# EAGLE library part ADF4382ABCCZ (library My_Library_RADAR)
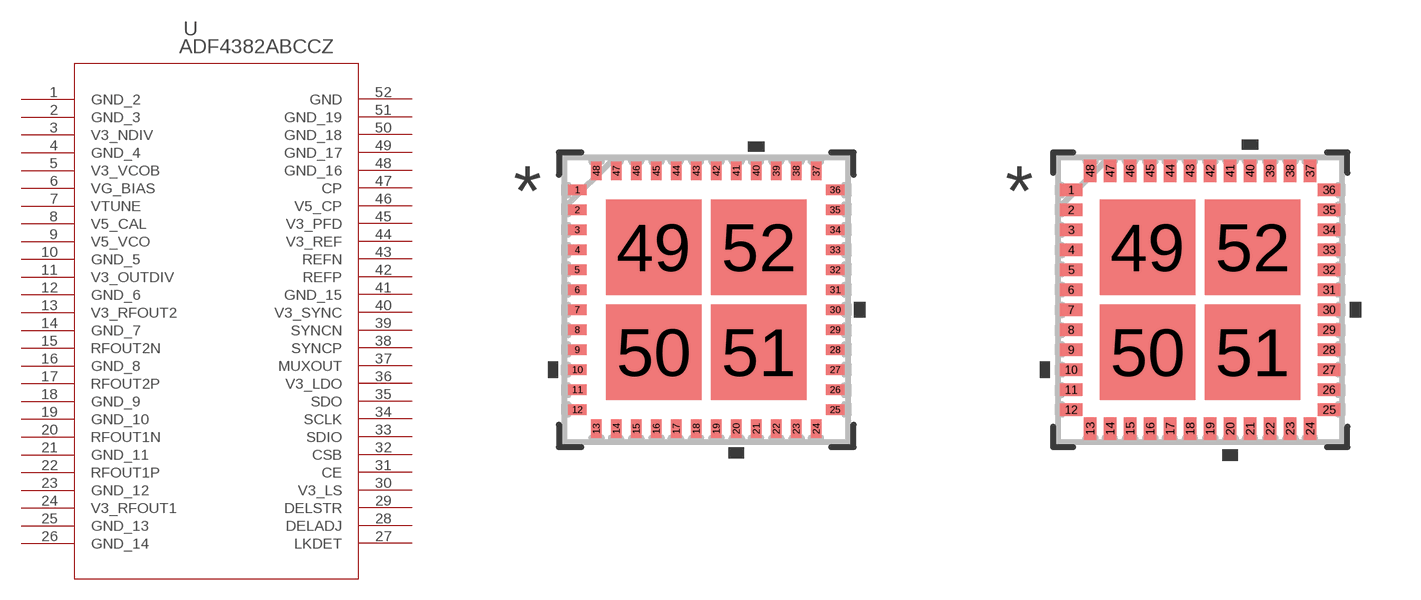
[diagram p3: symbol with the pads of CC-48-10_ADI; footprints CC-48-10_ADI, CC-48-10_ADI-M]

Designator prefix U

## ADF4382ABCCZ (COPYRIGHT: Copyright (C) 2024 Ultra Librarian. All rights reserved.; MANUFACTURER_PART_NUMBER: ADF4382ABCCZ; MFR_NAME: Analog Devices Inc)  [CC-48-10_ADI]
1  GND_2  pas
2  GND_3  pas
3  V3_NDIV  pwr
4  GND_4  pas
5  V3_VCOB  pwr
6  VG_BIAS  nc
7  VTUNE  in
8  V5_CAL  pwr
9  V5_VCO  pwr
10  GND_5  pas
11  V3_OUTDIV  pwr
12  GND_6  pas
13  V3_RFOUT2  pwr
14  GND_7  pas
15  RFOUT2N  out
16  GND_8  pas
17  RFOUT2P  out
18  GND_9  pas
19  GND_10  pas
20  RFOUT1N  out
21  GND_11  pas
22  RFOUT1P  out
23  GND_12  pas
24  V3_RFOUT1  pwr
25  GND_13  pas
26  GND_14  pas
27  LKDET  out
28  DELADJ  in
29  DELSTR  in
30  V3_LS  pwr
31  CE  in
32  CSB  in
33  SDIO
34  SCLK  in
35  SDO  out
36  V3_LDO  pwr
37  MUXOUT  out
38  SYNCP  in
39  SYNCN  in
40  V3_SYNC  pwr
41  GND_15  pas
42  REFP  in
43  REFN  in
44  V3_REF  pwr
45  V3_PFD  pwr
46  V5_CP  pwr
47  CP  out
48  GND_16  pas
49  GND_17  pas
50  GND_18  pas
51  GND_19  pas
52  GND  pas

## ADF4382ABCCZCC-48-10_ADI-M (COPYRIGHT: Copyright (C) 2024 Ultra Librarian. All rights reserved.; MANUFACTURER_PART_NUMBER: ADF4382ABCCZ; MFR_NAME: Analog Devices Inc)  [CC-48-10_ADI-M]
Pads as for CC-48-10_ADI

## ADF4382ABCCZCC-48-10_ADI-L (COPYRIGHT: Copyright (C) 2024 Ultra Librarian. All rights reserved.; MANUFACTURER_PART_NUMBER: ADF4382ABCCZ; MFR_NAME: Analog Devices Inc)  [CC-48-10_ADI-L]
Pads as for CC-48-10_ADI

## Footprint CC-48-10_ADI (pad centres in mm)
smd 0.457 x 0.254: 1 -3.226,2.75; 2 -3.226,2.25; 3 -3.226,1.75; 4 -3.226,1.25; 5 -3.226,0.75; 6 -3.226,0.25; 7 -3.226,-0.25; 8 -3.226,-0.75; 9 -3.226,-1.25; 10 -3.226,-1.75; 11 -3.226,-2.25; 12 -3.226,-2.75; 25 3.226,-2.75; 26 3.226,-2.25; 27 3.226,-1.75; 28 3.226,-1.25; 29 3.226,-0.75; 30 3.226,-0.25; 31 3.226,0.25; 32 3.226,0.75; 33 3.226,1.25; 34 3.226,1.75; 35 3.226,2.25; 36 3.226,2.75
smd 0.254 x 0.457: 13 -2.75,-3.226; 14 -2.25,-3.226; 15 -1.75,-3.226; 16 -1.25,-3.226; 17 -0.75,-3.226; 18 -0.25,-3.226; 19 0.25,-3.226; 20 0.75,-3.226; 21 1.25,-3.226; 22 1.75,-3.226; 23 2.25,-3.226; 24 2.75,-3.226; 37 2.75,3.226; 38 2.25,3.226; 39 1.75,3.226; 40 1.25,3.226; 41 0.75,3.226; 42 0.25,3.226; 43 -0.25,3.226; 44 -0.75,3.226; 45 -1.25,3.226; 46 -1.75,3.226; 47 -2.25,3.226; 48 -2.75,3.226
smd 2.388 x 2.388: 49 -1.312,1.312; 50 -1.312,-1.312; 51 1.312,-1.312; 52 1.312,1.312

## Footprint CC-48-10_ADI-M (pad centres in mm)
smd 0.559 x 0.305: 1 -3.226,2.75; 2 -3.226,2.25; 3 -3.226,1.75; 4 -3.226,1.25; 5 -3.226,0.75; 6 -3.226,0.25; 7 -3.226,-0.25; 8 -3.226,-0.75; 9 -3.226,-1.25; 10 -3.226,-1.75; 11 -3.226,-2.25; 12 -3.226,-2.75; 25 3.226,-2.75; 26 3.226,-2.25; 27 3.226,-1.75; 28 3.226,-1.25; 29 3.226,-0.75; 30 3.226,-0.25; 31 3.226,0.25; 32 3.226,0.75; 33 3.226,1.25; 34 3.226,1.75; 35 3.226,2.25; 36 3.226,2.75
smd 0.305 x 0.559: 13 -2.75,-3.226; 14 -2.25,-3.226; 15 -1.75,-3.226; 16 -1.25,-3.226; 17 -0.75,-3.226; 18 -0.25,-3.226; 19 0.25,-3.226; 20 0.75,-3.226; 21 1.25,-3.226; 22 1.75,-3.226; 23 2.25,-3.226; 24 2.75,-3.226; 37 2.75,3.226; 38 2.25,3.226; 39 1.75,3.226; 40 1.25,3.226; 41 0.75,3.226; 42 0.25,3.226; 43 -0.25,3.226; 44 -0.75,3.226; 45 -1.25,3.226; 46 -1.75,3.226; 47 -2.25,3.226; 48 -2.75,3.226
smd 2.388 x 2.388: 49 -1.312,1.312; 50 -1.312,-1.312; 51 1.312,-1.312; 52 1.312,1.312

## Footprint CC-48-10_ADI-L (pad centres in mm)
smd 0.356 x 0.203: 1 -3.226,2.75; 2 -3.226,2.25; 3 -3.226,1.75; 4 -3.226,1.25; 5 -3.226,0.75; 6 -3.226,0.25; 7 -3.226,-0.25; 8 -3.226,-0.75; 9 -3.226,-1.25; 10 -3.226,-1.75; 11 -3.226,-2.25; 12 -3.226,-2.75; 25 3.226,-2.75; 26 3.226,-2.25; 27 3.226,-1.75; 28 3.226,-1.25; 29 3.226,-0.75; 30 3.226,-0.25; 31 3.226,0.25; 32 3.226,0.75; 33 3.226,1.25; 34 3.226,1.75; 35 3.226,2.25; 36 3.226,2.75
smd 0.203 x 0.356: 13 -2.75,-3.226; 14 -2.25,-3.226; 15 -1.75,-3.226; 16 -1.25,-3.226; 17 -0.75,-3.226; 18 -0.25,-3.226; 19 0.25,-3.226; 20 0.75,-3.226; 21 1.25,-3.226; 22 1.75,-3.226; 23 2.25,-3.226; 24 2.75,-3.226; 37 2.75,3.226; 38 2.25,3.226; 39 1.75,3.226; 40 1.25,3.226; 41 0.75,3.226; 42 0.25,3.226; 43 -0.25,3.226; 44 -0.75,3.226; 45 -1.25,3.226; 46 -1.75,3.226; 47 -2.25,3.226; 48 -2.75,3.226
smd 2.388 x 2.388: 49 -1.312,1.312; 50 -1.312,-1.312; 51 1.312,-1.312; 52 1.312,1.312